# Altium schematic symbol library SG_SCH_Diodes.SchLib: 16 symbols
Pins are listed as number, name and electrical type; pins without a type are passive.

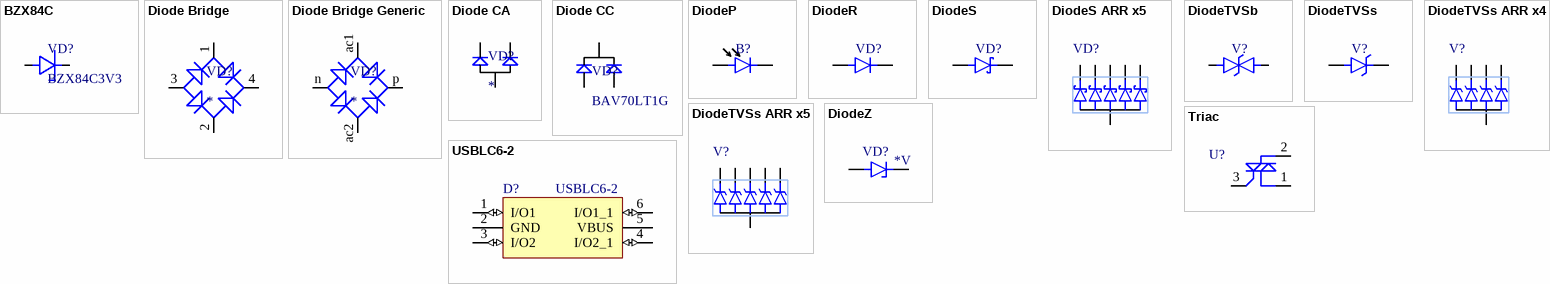
[diagram p0: symbols BZX84C to USBLC6-2]

## BZX84C
designator VD?, comment BZX84C3V3
Zenner diode; Order: *BZX84C3V3; ForwardCurrent: *A; ForwardVoltage: *V; ReverseCurrent: *A; ReverseVoltage: *V
footprint SOT23-3
pins: 1, 3

## Diode Bridge
designator VD?
Diode Bridge; ForwardCurrent: *A; ForwardVoltage: *V; Order: *; ReverseCurrent: *A; ReverseVoltage: *V
pins: 1, 2, 3, 4

## Diode Bridge Generic
designator VD?
Diode Bridge; ForwardCurrent: *A; ForwardVoltage: *V; Order: *; ReverseCurrent: *A; ReverseVoltage: *V
pins: ac1, ac2, n, p

## Diode CA
designator VD?
Two common anode schottky diodes; Order: *BAR43A; ForwardCurrent: *A; ForwardVoltage: *V; ReverseCurrent: *A; ReverseVoltage: *V
footprint SOT23-3
pins: 1, 2, 3

## Diode CC
designator VD?, comment BAV70LT1G
Two Common-Cathode diodes; Order: *BAV70LT1G; ForwardCurrent: *A; ForwardVoltage: *V; ReverseCurrent: *A; ReverseVoltage: *V
footprint SOT-23-3 (Footprint not found)
pins: 1, 2, 3

## DiodeP
designator B?  (value not drawn)
Diode Photo; ForwardCurrent: *A; ForwardVoltage: *V; Order: *; ReverseCurrent: *A; ReverseVoltage: *V
pins: A Anode, C Cathode

## DiodeR
designator VD?  (value not drawn)
Diode Rectifier; ForwardCurrent: *A; ForwardVoltage: *V; Order: *; ReverseCurrent: *A; ReverseVoltage: *V
footprint DO-41
footprint DO-214AA(SMB)
footprint DO-214AB(SMC)
footprint DO-214AC(SMA)
pins: A Anode, C Cathode

## DiodeS
designator VD?  (value not drawn)
Diode Shottky; ForwardCurrent: *A; ForwardVoltage: *V; Order: *; ReverseCurrent: *A; ReverseVoltage: *V
footprint DO-41
footprint DO-214AC(SMA)
footprint DO-214AA(SMB)
footprint DO-214AB(SMC)
footprint SOD-523M (SODFL, 2-Leads, Body 0,80x1,60mm, IPC Low Density)
footprint SOD-523N (SODFL, 2-Leads, Body 0,80x1,60mm, IPC Medium Density)
footprint SOD-523L (SODFL, 2-Leads, Body 0,80x1,60mm, IPC High Density)
pins: A Anode, C Cathode

## DiodeS ARR x5
designator VD?  (value not drawn)
Diode Shottky ARR x5; ForwardCurrent: *A; ForwardVoltage: *V; Order: *; ReverseCurrent: *A; ReverseVoltage: *V
pins: 1, 2, 3, 4, 5, 6

## DiodeTVSb
designator V?  (value not drawn)
Diode TVS Bidirectional; ForwardCurrent: *A; ForwardVoltage: *V; Order: *; ReverseCurrent: *A; ReverseVoltage: *V
footprint DO-214AC(SMA)
footprint DO-214AA(SMB)
footprint DO-214AB(SMC)
footprint SOD-123N (SODFL, 2-Leads, Body 1,80x3,65mm, IPC Medium Density)
footprint SOD-323
footprint SOD-523N (SODFL, 2-Leads, Body 0,80x1,60mm, IPC Medium Density)
pins: A Anode, C Anode

## DiodeTVSs
designator V?  (value not drawn)
Diode TVS Single; ForwardCurrent: *A; ForwardVoltage: *V; Order: *; ReverseCurrent: *A; ReverseVoltage: *V
footprint DO-41
footprint SOD-523 (SODFL, 2-Leads, Body 0.80x2.08mm, IPC Medium Density)
footprint DO-214AC(SMA)
footprint DO-214AA(SMB)
footprint DO-214AB(SMC)
footprint SOD-523L (SODFL, 2-Leads, Body 0,80x1,60mm, IPC High Density)
footprint SOD-323
pins: A Anode, C Cathode

## DiodeTVSs ARR x4
designator V?  (value not drawn)
Diode TVS Single ARR x4; ForwardCurrent: *A; ForwardVoltage: *V; Order: *; ReverseCurrent: *A; ReverseVoltage: *V
footprint SOT-353-5N (SOT23, 5-Leads, Body 2,00x2,10mm, Pitch 0,65mm, IPC Medium Density)
footprint SOT-353-5M (SOT23, 5-Leads, Body 2,00x2,10mm, Pitch 0,65mm, IPC Low Density)
footprint SOT-353-5L (SOT23, 5-Leads, Body 2,00x2,10mm, Pitch 0,65mm, IPC High Density)
pins: 1, 2, 3, 4, 5

## DiodeTVSs ARR x5
designator V?  (value not drawn)
Diode TVS Single ARR x5; ForwardCurrent: *A; ForwardVoltage: *V; Order: *; ReverseCurrent: *A; ReverseVoltage: *V
pins: 1, 2, 3, 4, 5, 6

## DiodeZ
designator VD?  ReverseVoltage: *V  (hidden comment: *)
Diode Zenner; ForwardCurrent: *A; Order: *; ForwardVoltage: *V; ReverseCurrent: *A
footprint SOT23-3
footprint SOD-523L (SODFL, 2-Leads, Body 0,80x1,60mm, IPC High Density)
footprint SOD-523M (SODFL, 2-Leads, Body 0,80x1,60mm, IPC Low Density)
footprint SOD-523N (SODFL, 2-Leads, Body 0,80x1,60mm, IPC Medium Density)
pins: A Anode, C Cathode

## Triac
designator U?
Genric triac; ForwardCurrent: *A; ForwardVoltage: *V; Order: *; ReverseCurrent: *A; ReverseVoltage: *V
footprint TO-220
pins: 1, 2, 3

## USBLC6-2
designator D?
Integrated Circuit; Order: *USBLC6-2SC6; Datasheet Link: http://www.st.com/st-web-ui/static/active/en/resource/technical/document/datasheet/CD00050750.pdf
footprint SOT23-6
pins: 1 I/O1 (io), 2 GND (power), 3 I/O2 (io), 4 I/O2_1 (io), 5 VBUS (power), 6 I/O1_1 (io)